# EAGLE library part FF12-32A-R11A/SCREEN (library iPodConnectors)
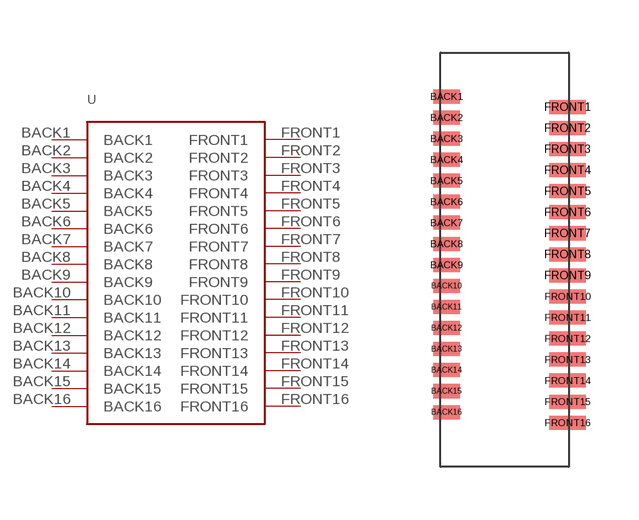
[diagram p1: symbol with the pads of FF12-32A-R11A; footprint FF12-32A-R11A]

Designator prefix -

## FF12-32A-R11A/SCREEN  [FF12-32A-R11A]
BACK1  BACK1
BACK2  BACK2
BACK3  BACK3
BACK4  BACK4
BACK5  BACK5
BACK6  BACK6
BACK7  BACK7
BACK8  BACK8
BACK9  BACK9
BACK10  BACK10
BACK11  BACK11
BACK12  BACK12
BACK13  BACK13
BACK14  BACK14
BACK15  BACK15
BACK16  BACK16
FRONT1  FRONT1
FRONT2  FRONT2
FRONT3  FRONT3
FRONT4  FRONT4
FRONT5  FRONT5
FRONT6  FRONT6
FRONT7  FRONT7
FRONT8  FRONT8
FRONT9  FRONT9
FRONT10  FRONT10
FRONT11  FRONT11
FRONT12  FRONT12
FRONT13  FRONT13
FRONT14  FRONT14
FRONT15  FRONT15
FRONT16  FRONT16

## Footprint FF12-32A-R11A (pad centres in mm)
smd 0.75 x 0.4: BACK1 -2.15,4.8; BACK2 -2.15,4.2; BACK3 -2.15,3.6; BACK4 -2.15,3; BACK5 -2.15,2.4; BACK6 -2.15,1.8; BACK7 -2.15,1.2; BACK8 -2.15,0.6; BACK9 -2.15,0; BACK10 -2.15,-0.6; BACK11 -2.15,-1.2; BACK12 -2.15,-1.8; BACK13 -2.15,-2.4; BACK14 -2.15,-3; BACK15 -2.15,-3.6; BACK16 -2.15,-4.2
smd 1.05 x 0.4: FRONT1 1.3,4.5; FRONT2 1.3,3.9; FRONT3 1.3,3.3; FRONT4 1.3,2.7; FRONT5 1.3,2.1; FRONT6 1.3,1.5; FRONT7 1.3,0.9; FRONT8 1.3,0.3; FRONT9 1.3,-0.3; FRONT10 1.3,-0.9; FRONT11 1.3,-1.5; FRONT12 1.3,-2.1; FRONT13 1.3,-2.7; FRONT14 1.3,-3.3; FRONT15 1.3,-3.9; FRONT16 1.3,-4.5